# Altium schematic symbol library RESx4.Schlib: 1 symbol
Pins are listed as number, name and electrical type; pins without a type are passive.

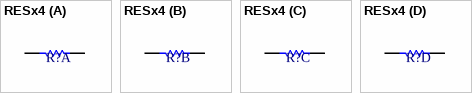
[diagram p0: symbol RESx4]

## RESx4
designator R?
Resistor Array
signal-integrity model Res Array
part A pins: 1 R1, 8 R2
part B pins: 2 R1, 7 R2
part C pins: 3 R1, 6 R2
part D pins: 4 R1, 5 R2